# Altium integrated library Adafruit PyGamer.Library.IntLib: 259 symbols (part 1 of 3)
Pins are listed as number, name and electrical type; pins without a type are passive.

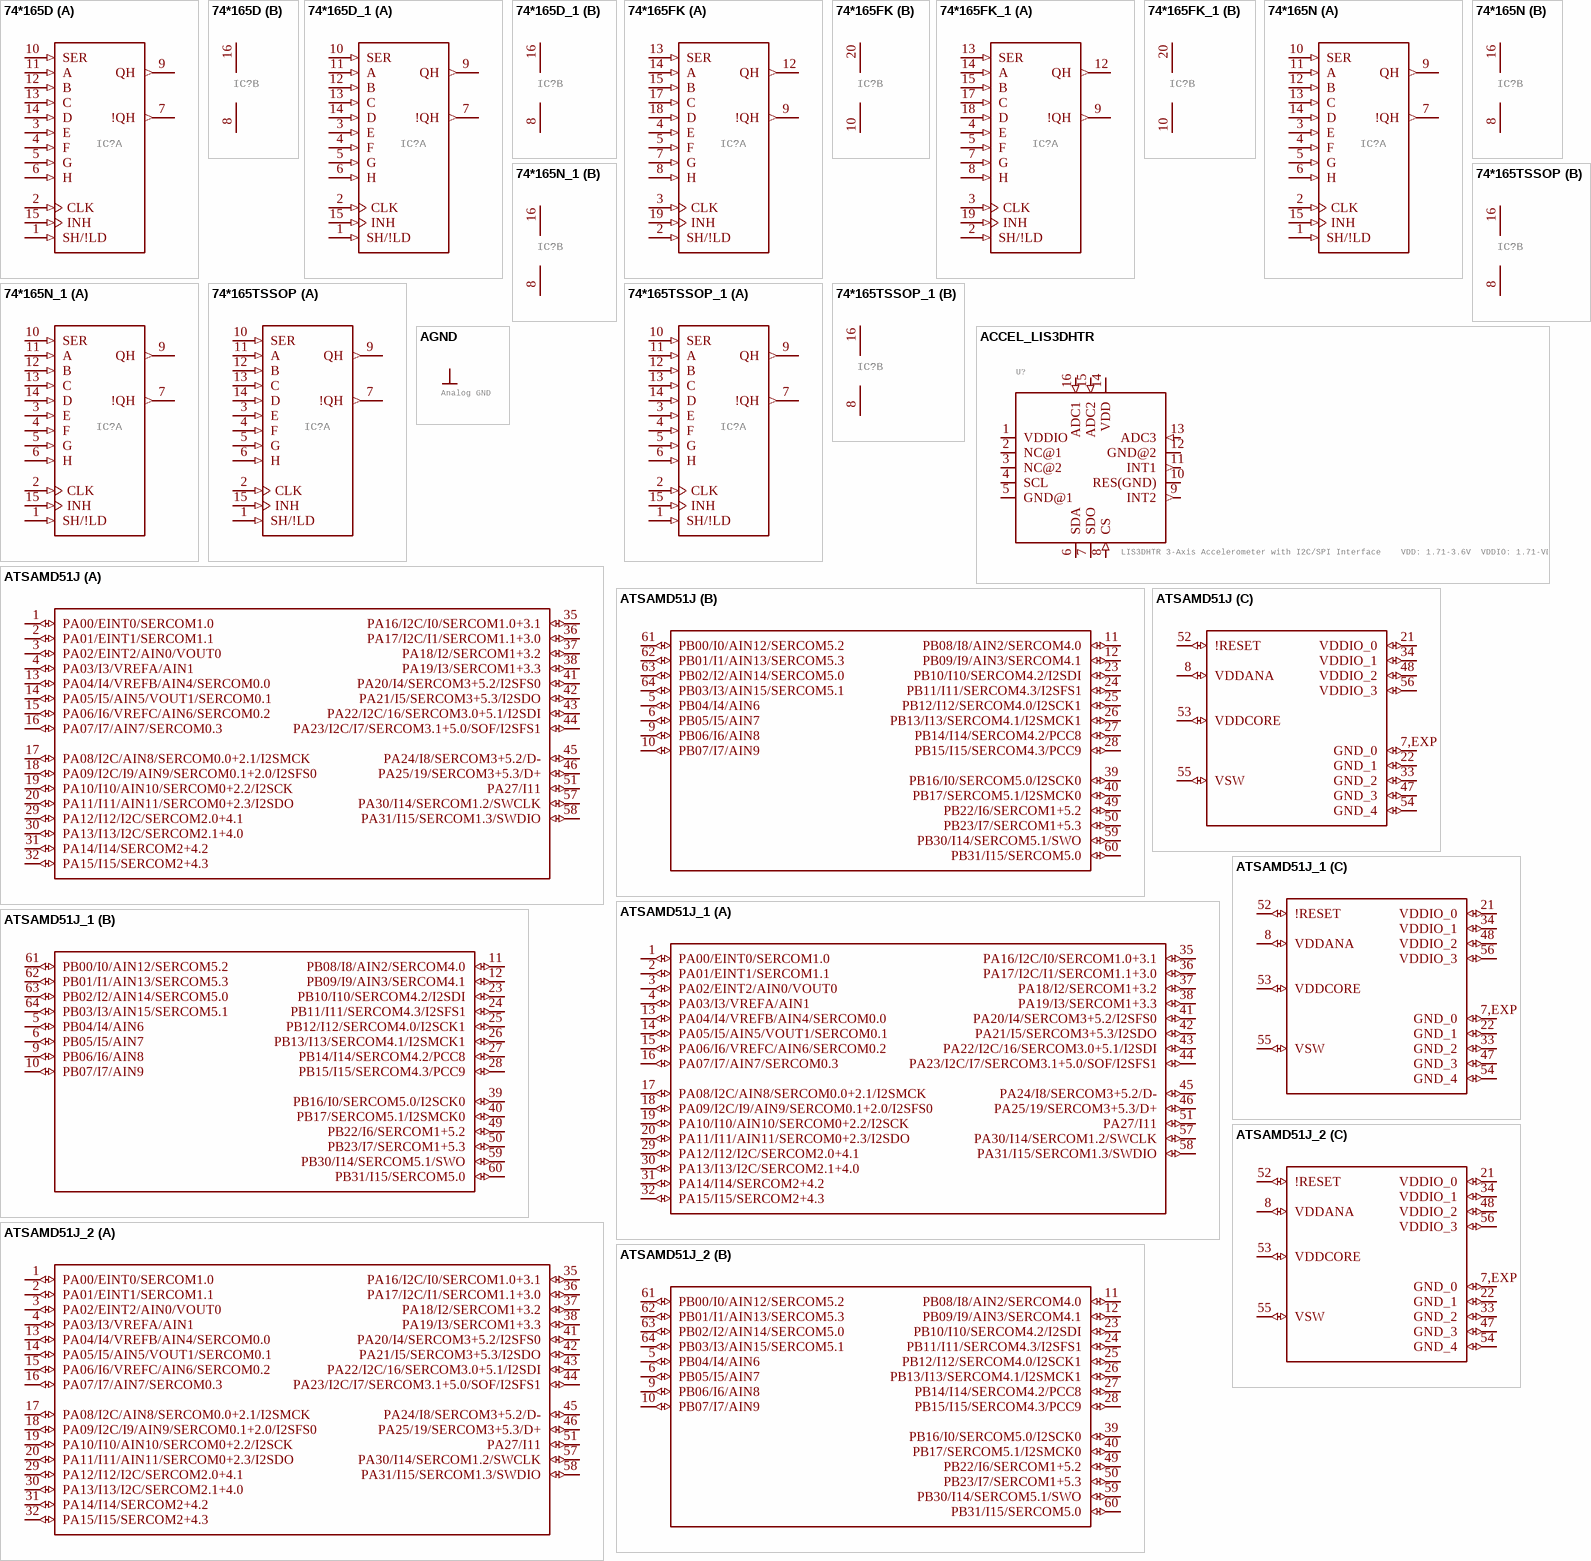
[diagram p0: symbols 74*165D to ATSAMD51J_2]

## 74*165D
designator IC?, comment 8-bit parallel load SHIFT REGISTER  (value not drawn)
GateName_1: A; SymbolName_1: 74165; GateName_2: P; SymbolName_2: PWRN; DeviceName: D; DeviceSetName: 74*165; LibraryName: Adafruit PyGamer; Package: SO16
footprint SO16
part A pins: 1 SH/!LD (in), 2 CLK (in), 3 E (in), 4 F (in), 5 G (in), 6 H (in), 7 !QH (out), 9 QH (out), 10 SER (in), 11 A (in), 12 B (in), 13 C (in), 14 D (in), 15 INH (in)
part B pins: 8 GND (power), 16 VCC (power)

## 74*165D_1
designator IC?, comment 8-bit parallel load SHIFT REGISTER  (value not drawn)
GateName_1: A; SymbolName_1: 74165; GateName_2: P; SymbolName_2: PWRN; DeviceName: D; DeviceSetName: 74*165; LibraryName: Adafruit PyGamer; Package: SO16
footprint SO16
part A pins: 1 SH/!LD (in), 2 CLK (in), 3 E (in), 4 F (in), 5 G (in), 6 H (in), 7 !QH (out), 9 QH (out), 10 SER (in), 11 A (in), 12 B (in), 13 C (in), 14 D (in), 15 INH (in)
part B pins: 8 GND (power), 16 VCC (power)

## 74*165FK
designator IC?, comment 8-bit parallel load SHIFT REGISTER  (value not drawn)
GateName_1: A; SymbolName_1: 74165; GateName_2: P; SymbolName_2: PWRN; DeviceName: FK; DeviceSetName: 74*165; LibraryName: Adafruit PyGamer; Package: LCC20
footprint LCC20
part A pins: 2 SH/!LD (in), 3 CLK (in), 4 E (in), 5 F (in), 7 G (in), 8 H (in), 9 !QH (out), 12 QH (out), 13 SER (in), 14 A (in), 15 B (in), 17 C (in), 18 D (in), 19 INH (in)
part B pins: 10 GND (power), 20 VCC (power)

## 74*165FK_1
designator IC?, comment 8-bit parallel load SHIFT REGISTER  (value not drawn)
GateName_1: A; SymbolName_1: 74165; GateName_2: P; SymbolName_2: PWRN; DeviceName: FK; DeviceSetName: 74*165; LibraryName: Adafruit PyGamer; Package: LCC20
footprint LCC20
part A pins: 2 SH/!LD (in), 3 CLK (in), 4 E (in), 5 F (in), 7 G (in), 8 H (in), 9 !QH (out), 12 QH (out), 13 SER (in), 14 A (in), 15 B (in), 17 C (in), 18 D (in), 19 INH (in)
part B pins: 10 GND (power), 20 VCC (power)

## 74*165N
designator IC?, comment 8-bit parallel load SHIFT REGISTER  (value not drawn)
GateName_1: A; SymbolName_1: 74165; GateName_2: P; SymbolName_2: PWRN; DeviceName: N; DeviceSetName: 74*165; LibraryName: Adafruit PyGamer; Package: DIL16
footprint DIL16
part A pins: 1 SH/!LD (in), 2 CLK (in), 3 E (in), 4 F (in), 5 G (in), 6 H (in), 7 !QH (out), 9 QH (out), 10 SER (in), 11 A (in), 12 B (in), 13 C (in), 14 D (in), 15 INH (in)
part B pins: 8 GND (power), 16 VCC (power)

## 74*165N_1
designator IC?, comment 8-bit parallel load SHIFT REGISTER  (value not drawn)
GateName_1: A; SymbolName_1: 74165; GateName_2: P; SymbolName_2: PWRN; DeviceName: N; DeviceSetName: 74*165; LibraryName: Adafruit PyGamer; Package: DIL16
footprint DIL16
part A pins: 1 SH/!LD (in), 2 CLK (in), 3 E (in), 4 F (in), 5 G (in), 6 H (in), 7 !QH (out), 9 QH (out), 10 SER (in), 11 A (in), 12 B (in), 13 C (in), 14 D (in), 15 INH (in)
part B pins: 8 GND (power), 16 VCC (power)

## 74*165TSSOP
designator IC?, comment 8-bit parallel load SHIFT REGISTER  (value not drawn)
GateName_1: A; SymbolName_1: 74165; GateName_2: P; SymbolName_2: PWRN; DeviceName: TSSOP; DeviceSetName: 74*165; LibraryName: Adafruit PyGamer; Package: TSSOP16
footprint TSSOP16
part A pins: 1 SH/!LD (in), 2 CLK (in), 3 E (in), 4 F (in), 5 G (in), 6 H (in), 7 !QH (out), 9 QH (out), 10 SER (in), 11 A (in), 12 B (in), 13 C (in), 14 D (in), 15 INH (in)
part B pins: 8 GND (power), 16 VCC (power)

## 74*165TSSOP_1
designator IC?, comment 8-bit parallel load SHIFT REGISTER  (value not drawn)
GateName_1: A; SymbolName_1: 74165; GateName_2: P; SymbolName_2: PWRN; DeviceName: TSSOP; DeviceSetName: 74*165; LibraryName: Adafruit PyGamer; Package: TSSOP16
footprint TSSOP16
part A pins: 1 SH/!LD (in), 2 CLK (in), 3 E (in), 4 F (in), 5 G (in), 6 H (in), 7 !QH (out), 9 QH (out), 10 SER (in), 11 A (in), 12 B (in), 13 C (in), 14 D (in), 15 INH (in)
part B pins: 8 GND (power), 16 VCC (power)

## ACCEL_LIS3DHTR
designator U?, comment LIS3DHTR 3-Axis Accelerometer with I2C/SPI Interface    VDD: 1.71-3.6V  VDDIO: 1.71-VDD+0.1V  Scale: +/-2g, 4g, 8g, 16g with 16--bit data output  Temp:: -40Â°C - 85Â°C       Mouser: 511-LIS3DHTR Digikey: 497-10613-1-ND
GateName_1: G$1; DeviceSetName: ACCEL_LIS3DHTR; SymbolName_1: LIS3DHTR; LibraryName: Adafruit PyGamer; Package: LGA16_3X3MM
footprint LGA16_3X3MM
pins: 1 VDDIO (power), 2 NC@1, 3 NC@2, 4 SCL (io), 5 GND@1 (power), 6 SDA (io), 7 SDO (io), 8 CS (in), 9 INT2 (out), 10 RES(GND) (io), 11 INT1 (out), 12 GND@2 (power), 13 ADC3 (in), 14 VDD (power), 15 ADC2 (in), 16 ADC1 (in)

## AGND
designator ?, comment Analog GND
GateName_1: G$1; SymbolName_1: AGND; LibraryName: Adafruit PyGamer; DeviceSetName: AGND
pins: ?1 AGND (power)

## ATSAMD51J
designator ?, comment ATSAMD51J cortex m4 microcontroller  (value not drawn)
GateName_1: G$1; SymbolName_1: ATSAMD51J_PORTA; GateName_2: G$2; SymbolName_2: ATSAMD51J_PORTB; GateName_3: G$3; SymbolName_3: ATSAMD51J_PWR; LibraryName: Adafruit PyGamer; DeviceSetName: ATSAMD51J; Package: PQFN64-1
footprint PQFN64-1
part A pins: 1 PA00/EINT0/SERCOM1.0 (io), 2 PA01/EINT1/SERCOM1.1 (io), 3 PA02/EINT2/AIN0/VOUT0 (io), 4 PA03/I3/VREFA/AIN1 (io), 13 PA04/I4/VREFB/AIN4/SERCOM0.0 (io), 14 PA05/I5/AIN5/VOUT1/SERCOM0.1 (io), 15 PA06/I6/VREFC/AIN6/SERCOM0.2 (io), 16 PA07/I7/AIN7/SERCOM0.3 (io), 17 PA08/I2C/AIN8/SERCOM0.0+2.1/I2SMCK (io), 18 PA09/I2C/I9/AIN9/SERCOM0.1+2.0/I2SFS0 (io), 19 PA10/I10/AIN10/SERCOM0+2.2/I2SCK (io), 20 PA11/I11/AIN11/SERCOM0+2.3/I2SDO (io), 29 PA12/I12/I2C/SERCOM2.0+4.1 (io), 30 PA13/I13/I2C/SERCOM2.1+4.0 (io), 31 PA14/I14/SERCOM2+4.2 (io), 32 PA15/I15/SERCOM2+4.3 (io), 35 PA16/I2C/I0/SERCOM1.0+3.1 (io), 36 PA17/I2C/I1/SERCOM1.1+3.0 (io), 37 PA18/I2/SERCOM1+3.2 (io), 38 PA19/I3/SERCOM1+3.3 (io), 41 PA20/I4/SERCOM3+5.2/I2SFS0 (io), 42 PA21/I5/SERCOM3+5.3/I2SDO (io), 43 PA22/I2C/16/SERCOM3.0+5.1/I2SDI (io), 44 PA23/I2C/I7/SERCOM3.1+5.0/SOF/I2SFS1 (io), 45 PA24/I8/SERCOM3+5.2/D- (io), 46 PA25/19/SERCOM3+5.3/D+ (io), 51 PA27/I11 (io), 57 PA30/I14/SERCOM1.2/SWCLK (io), 58 PA31/I15/SERCOM1.3/SWDIO (io)
part B pins: 5 PB04/I4/AIN6 (io), 6 PB05/I5/AIN7 (io), 9 PB06/I6/AIN8 (io), 10 PB07/I7/AIN9 (io), 11 PB08/I8/AIN2/SERCOM4.0 (io), 12 PB09/I9/AIN3/SERCOM4.1 (io), 23 PB10/I10/SERCOM4.2/I2SDI (io), 24 PB11/I11/SERCOM4.3/I2SFS1 (io), 25 PB12/I12/SERCOM4.0/I2SCK1 (io), 26 PB13/I13/SERCOM4.1/I2SMCK1 (io), 27 PB14/I14/SERCOM4.2/PCC8 (io), 28 PB15/I15/SERCOM4.3/PCC9 (io), 39 PB16/I0/SERCOM5.0/I2SCK0 (io), 40 PB17/SERCOM5.1/I2SMCK0 (io), 49 PB22/I6/SERCOM1+5.2 (io), 50 PB23/I7/SERCOM1+5.3 (io), 59 PB30/I14/SERCOM5.1/SWO (io), 60 PB31/I15/SERCOM5.0 (io), 61 PB00/I0/AIN12/SERCOM5.2 (io), 62 PB01/I1/AIN13/SERCOM5.3 (io), 63 PB02/I2/AIN14/SERCOM5.0 (io), 64 PB03/I3/AIN15/SERCOM5.1 (io)
part C pins: 7,EXP GND_0 (io), 8 VDDANA (io), 21 VDDIO_0 (io), 22 GND_1 (io), 33 GND_2 (io), 34 VDDIO_1 (io), 47 GND_3 (io), 48 VDDIO_2 (io), 52 !RESET (io), 53 VDDCORE (io), 54 GND_4 (io), 55 VSW (io), 56 VDDIO_3 (io)

## ATSAMD51J_1
designator ?, comment ATSAMD51J cortex m4 microcontroller  (value not drawn)
GateName_1: G$1; SymbolName_1: ATSAMD51J_PORTA; GateName_2: G$2; SymbolName_2: ATSAMD51J_PORTB; GateName_3: G$3; SymbolName_3: ATSAMD51J_PWR; LibraryName: Adafruit PyGamer; DeviceSetName: ATSAMD51J; Package: PQFN64-1
footprint PQFN64-1
part A pins: 1 PA00/EINT0/SERCOM1.0 (io), 2 PA01/EINT1/SERCOM1.1 (io), 3 PA02/EINT2/AIN0/VOUT0 (io), 4 PA03/I3/VREFA/AIN1 (io), 13 PA04/I4/VREFB/AIN4/SERCOM0.0 (io), 14 PA05/I5/AIN5/VOUT1/SERCOM0.1 (io), 15 PA06/I6/VREFC/AIN6/SERCOM0.2 (io), 16 PA07/I7/AIN7/SERCOM0.3 (io), 17 PA08/I2C/AIN8/SERCOM0.0+2.1/I2SMCK (io), 18 PA09/I2C/I9/AIN9/SERCOM0.1+2.0/I2SFS0 (io), 19 PA10/I10/AIN10/SERCOM0+2.2/I2SCK (io), 20 PA11/I11/AIN11/SERCOM0+2.3/I2SDO (io), 29 PA12/I12/I2C/SERCOM2.0+4.1 (io), 30 PA13/I13/I2C/SERCOM2.1+4.0 (io), 31 PA14/I14/SERCOM2+4.2 (io), 32 PA15/I15/SERCOM2+4.3 (io), 35 PA16/I2C/I0/SERCOM1.0+3.1 (io), 36 PA17/I2C/I1/SERCOM1.1+3.0 (io), 37 PA18/I2/SERCOM1+3.2 (io), 38 PA19/I3/SERCOM1+3.3 (io), 41 PA20/I4/SERCOM3+5.2/I2SFS0 (io), 42 PA21/I5/SERCOM3+5.3/I2SDO (io), 43 PA22/I2C/16/SERCOM3.0+5.1/I2SDI (io), 44 PA23/I2C/I7/SERCOM3.1+5.0/SOF/I2SFS1 (io), 45 PA24/I8/SERCOM3+5.2/D- (io), 46 PA25/19/SERCOM3+5.3/D+ (io), 51 PA27/I11 (io), 57 PA30/I14/SERCOM1.2/SWCLK (io), 58 PA31/I15/SERCOM1.3/SWDIO (io)
part B pins: 5 PB04/I4/AIN6 (io), 6 PB05/I5/AIN7 (io), 9 PB06/I6/AIN8 (io), 10 PB07/I7/AIN9 (io), 11 PB08/I8/AIN2/SERCOM4.0 (io), 12 PB09/I9/AIN3/SERCOM4.1 (io), 23 PB10/I10/SERCOM4.2/I2SDI (io), 24 PB11/I11/SERCOM4.3/I2SFS1 (io), 25 PB12/I12/SERCOM4.0/I2SCK1 (io), 26 PB13/I13/SERCOM4.1/I2SMCK1 (io), 27 PB14/I14/SERCOM4.2/PCC8 (io), 28 PB15/I15/SERCOM4.3/PCC9 (io), 39 PB16/I0/SERCOM5.0/I2SCK0 (io), 40 PB17/SERCOM5.1/I2SMCK0 (io), 49 PB22/I6/SERCOM1+5.2 (io), 50 PB23/I7/SERCOM1+5.3 (io), 59 PB30/I14/SERCOM5.1/SWO (io), 60 PB31/I15/SERCOM5.0 (io), 61 PB00/I0/AIN12/SERCOM5.2 (io), 62 PB01/I1/AIN13/SERCOM5.3 (io), 63 PB02/I2/AIN14/SERCOM5.0 (io), 64 PB03/I3/AIN15/SERCOM5.1 (io)
part C pins: 7,EXP GND_0 (io), 8 VDDANA (io), 21 VDDIO_0 (io), 22 GND_1 (io), 33 GND_2 (io), 34 VDDIO_1 (io), 47 GND_3 (io), 48 VDDIO_2 (io), 52 !RESET (io), 53 VDDCORE (io), 54 GND_4 (io), 55 VSW (io), 56 VDDIO_3 (io)

## ATSAMD51J_2
designator ?, comment ATSAMD51J cortex m4 microcontroller  (value not drawn)
GateName_1: G$1; SymbolName_1: ATSAMD51J_PORTA; GateName_2: G$2; SymbolName_2: ATSAMD51J_PORTB; GateName_3: G$3; SymbolName_3: ATSAMD51J_PWR; LibraryName: Adafruit PyGamer; DeviceSetName: ATSAMD51J; Package: PQFN64-1
footprint PQFN64-1
part A pins: 1 PA00/EINT0/SERCOM1.0 (io), 2 PA01/EINT1/SERCOM1.1 (io), 3 PA02/EINT2/AIN0/VOUT0 (io), 4 PA03/I3/VREFA/AIN1 (io), 13 PA04/I4/VREFB/AIN4/SERCOM0.0 (io), 14 PA05/I5/AIN5/VOUT1/SERCOM0.1 (io), 15 PA06/I6/VREFC/AIN6/SERCOM0.2 (io), 16 PA07/I7/AIN7/SERCOM0.3 (io), 17 PA08/I2C/AIN8/SERCOM0.0+2.1/I2SMCK (io), 18 PA09/I2C/I9/AIN9/SERCOM0.1+2.0/I2SFS0 (io), 19 PA10/I10/AIN10/SERCOM0+2.2/I2SCK (io), 20 PA11/I11/AIN11/SERCOM0+2.3/I2SDO (io), 29 PA12/I12/I2C/SERCOM2.0+4.1 (io), 30 PA13/I13/I2C/SERCOM2.1+4.0 (io), 31 PA14/I14/SERCOM2+4.2 (io), 32 PA15/I15/SERCOM2+4.3 (io), 35 PA16/I2C/I0/SERCOM1.0+3.1 (io), 36 PA17/I2C/I1/SERCOM1.1+3.0 (io), 37 PA18/I2/SERCOM1+3.2 (io), 38 PA19/I3/SERCOM1+3.3 (io), 41 PA20/I4/SERCOM3+5.2/I2SFS0 (io), 42 PA21/I5/SERCOM3+5.3/I2SDO (io), 43 PA22/I2C/16/SERCOM3.0+5.1/I2SDI (io), 44 PA23/I2C/I7/SERCOM3.1+5.0/SOF/I2SFS1 (io), 45 PA24/I8/SERCOM3+5.2/D- (io), 46 PA25/19/SERCOM3+5.3/D+ (io), 51 PA27/I11 (io), 57 PA30/I14/SERCOM1.2/SWCLK (io), 58 PA31/I15/SERCOM1.3/SWDIO (io)
part B pins: 5 PB04/I4/AIN6 (io), 6 PB05/I5/AIN7 (io), 9 PB06/I6/AIN8 (io), 10 PB07/I7/AIN9 (io), 11 PB08/I8/AIN2/SERCOM4.0 (io), 12 PB09/I9/AIN3/SERCOM4.1 (io), 23 PB10/I10/SERCOM4.2/I2SDI (io), 24 PB11/I11/SERCOM4.3/I2SFS1 (io), 25 PB12/I12/SERCOM4.0/I2SCK1 (io), 26 PB13/I13/SERCOM4.1/I2SMCK1 (io), 27 PB14/I14/SERCOM4.2/PCC8 (io), 28 PB15/I15/SERCOM4.3/PCC9 (io), 39 PB16/I0/SERCOM5.0/I2SCK0 (io), 40 PB17/SERCOM5.1/I2SMCK0 (io), 49 PB22/I6/SERCOM1+5.2 (io), 50 PB23/I7/SERCOM1+5.3 (io), 59 PB30/I14/SERCOM5.1/SWO (io), 60 PB31/I15/SERCOM5.0 (io), 61 PB00/I0/AIN12/SERCOM5.2 (io), 62 PB01/I1/AIN13/SERCOM5.3 (io), 63 PB02/I2/AIN14/SERCOM5.0 (io), 64 PB03/I3/AIN15/SERCOM5.1 (io)
part C pins: 7,EXP GND_0 (io), 8 VDDANA (io), 21 VDDIO_0 (io), 22 GND_1 (io), 33 GND_2 (io), 34 VDDIO_1 (io), 47 GND_3 (io), 48 VDDIO_2 (io), 52 !RESET (io), 53 VDDCORE (io), 54 GND_4 (io), 55 VSW (io), 56 VDDIO_3 (io)

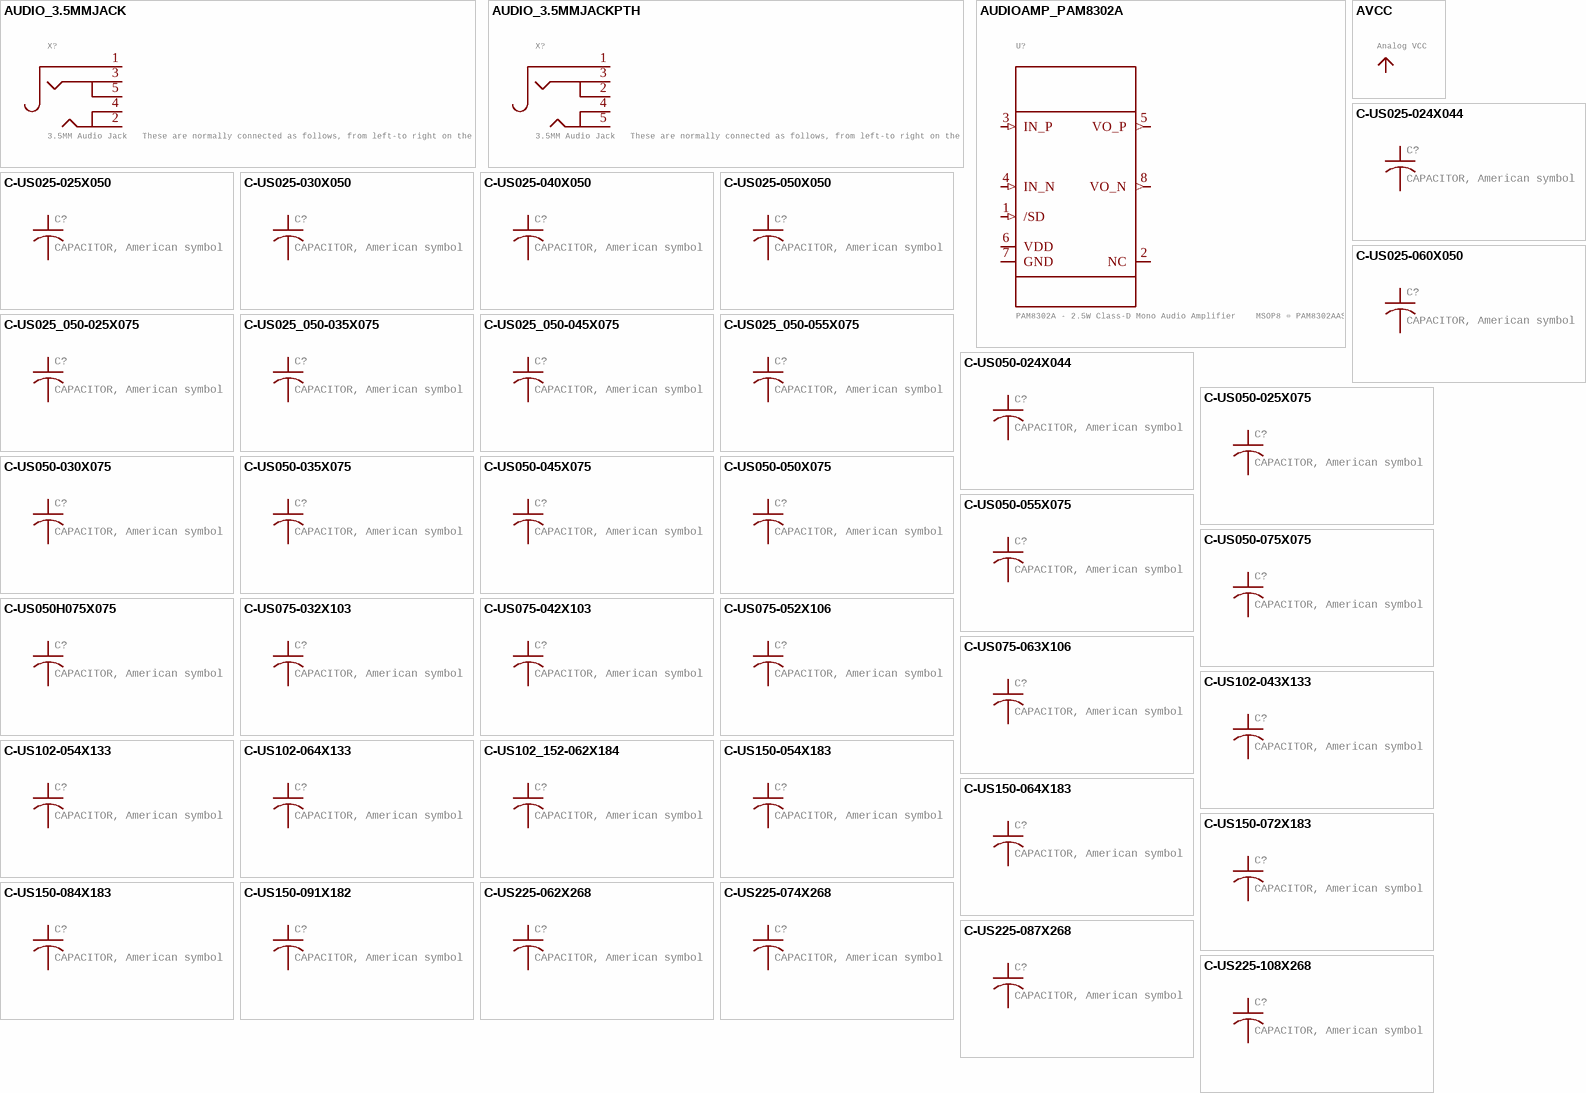
[diagram p1: symbols AUDIO_3.5MMJACK to C-US225-108X268]

## AUDIO_3.5MMJACK
designator X?, comment 3.5MM Audio Jack   These are normally connected as follows, from left-to right on the schematic symbol above: Tip: Left Audio  Inner Ring: Right Audio  Shell: Common/GND
GateName_1: G$1; SymbolName_1: 3.5MMAUDIO_5PIN; DeviceSetName: AUDIO_3.5MMJACK; LibraryName: Adafruit PyGamer; Package: 4UCONN_19269
footprint 4UCONN_19269
pins: 1 P$1 (io), 2 P$5 (io), 3 P$2 (io), 4 P$4 (io), 5 P$3 (io)

## AUDIO_3.5MMJACKPTH
designator X?, comment 3.5MM Audio Jack   These are normally connected as follows, from left-to right on the schematic symbol above: Tip: Left Audio  Inner Ring: Right Audio  Shell: Common/GND
GateName_1: G$1; SymbolName_1: 3.5MMAUDIO_5PIN; DeviceName: PTH; DeviceSetName: AUDIO_3.5MMJACK; LibraryName: Adafruit PyGamer; Package: 4UCONN_05550
footprint 4UCONN_05550
pins: 1 P$1 (io), 2 P$3 (io), 3 P$2 (io), 4 P$4 (io), 5 P$5 (io)

## AUDIOAMP_PAM8302A
designator U?, comment PAM8302A - 2.5W Class-D Mono Audio Amplifier    MSOP8 = PAM8302AASCR
GateName_1: G$1; DeviceSetName: AUDIOAMP_PAM8302A; SymbolName_1: PAM8302A; LibraryName: Adafruit PyGamer; Package: MSOP8_0.65MM
footprint MSOP8_0.65MM
pins: 1 /SD (in), 2 NC, 3 IN_P (in), 4 IN_N (in), 5 VO_P (out), 6 VDD (power), 7 GND (power), 8 VO_N (out)

## AVCC
designator ?, comment Analog VCC
GateName_1: G$1; SymbolName_1: AVCC; LibraryName: Adafruit PyGamer; DeviceSetName: AVCC
pins: ?1 AVCC (power)

## C-US025-024X044
designator C?, comment CAPACITOR, American symbol
GateName_1: G$1; SymbolName_1: C-US-1; DeviceName: 025-024X044; DeviceSetName: C-US; LibraryName: Adafruit PyGamer; Package: C025-024X044
footprint C025-024X044
pins: 1, 2

## C-US025-025X050
designator C?, comment CAPACITOR, American symbol
GateName_1: G$1; SymbolName_1: C-US-1; DeviceName: 025-025X050; DeviceSetName: C-US; LibraryName: Adafruit PyGamer; Package: C025-025X050
footprint C025-025X050
pins: 1, 2

## C-US025-030X050
designator C?, comment CAPACITOR, American symbol
GateName_1: G$1; SymbolName_1: C-US-1; DeviceName: 025-030X050; DeviceSetName: C-US; LibraryName: Adafruit PyGamer; Package: C025-030X050
footprint C025-030X050
pins: 1, 2

## C-US025-040X050
designator C?, comment CAPACITOR, American symbol
GateName_1: G$1; SymbolName_1: C-US-1; DeviceName: 025-040X050; DeviceSetName: C-US; LibraryName: Adafruit PyGamer; Package: C025-040X050
footprint C025-040X050
pins: 1, 2

## C-US025-050X050
designator C?, comment CAPACITOR, American symbol
GateName_1: G$1; SymbolName_1: C-US-1; DeviceName: 025-050X050; DeviceSetName: C-US; LibraryName: Adafruit PyGamer; Package: C025-050X050
footprint C025-050X050
pins: 1, 2

## C-US025-060X050
designator C?, comment CAPACITOR, American symbol
GateName_1: G$1; SymbolName_1: C-US-1; DeviceName: 025-060X050; DeviceSetName: C-US; LibraryName: Adafruit PyGamer; Package: C025-060X050
footprint C025-060X050
pins: 1, 2

## C-US025_050-025X075
designator C?, comment CAPACITOR, American symbol
GateName_1: G$1; SymbolName_1: C-US-1; DeviceName: 025_050-025X075; DeviceSetName: C-US; LibraryName: Adafruit PyGamer; Package: C025_050-025X075
footprint C025_050-025X075
pins: 1, 2

## C-US025_050-035X075
designator C?, comment CAPACITOR, American symbol
GateName_1: G$1; SymbolName_1: C-US-1; DeviceName: 025_050-035X075; DeviceSetName: C-US; LibraryName: Adafruit PyGamer; Package: C025_050-035X075
footprint C025_050-035X075
pins: 1, 2

## C-US025_050-045X075
designator C?, comment CAPACITOR, American symbol
GateName_1: G$1; SymbolName_1: C-US-1; DeviceName: 025_050-045X075; DeviceSetName: C-US; LibraryName: Adafruit PyGamer; Package: C025_050-045X075
footprint C025_050-045X075
pins: 1, 2

## C-US025_050-055X075
designator C?, comment CAPACITOR, American symbol
GateName_1: G$1; SymbolName_1: C-US-1; DeviceName: 025_050-055X075; DeviceSetName: C-US; LibraryName: Adafruit PyGamer; Package: C025_050-055X075
footprint C025_050-055X075
pins: 1, 2

## C-US050-024X044
designator C?, comment CAPACITOR, American symbol
GateName_1: G$1; SymbolName_1: C-US-1; DeviceName: 050-024X044; DeviceSetName: C-US; LibraryName: Adafruit PyGamer; Package: C050-024X044
footprint C050-024X044
pins: 1, 2

## C-US050-025X075
designator C?, comment CAPACITOR, American symbol
GateName_1: G$1; SymbolName_1: C-US-1; DeviceName: 050-025X075; DeviceSetName: C-US; LibraryName: Adafruit PyGamer; Package: C050-025X075
footprint C050-025X075
pins: 1, 2

## C-US050-030X075
designator C?, comment CAPACITOR, American symbol
GateName_1: G$1; SymbolName_1: C-US-1; DeviceName: 050-030X075; DeviceSetName: C-US; LibraryName: Adafruit PyGamer; Package: C050-030X075
footprint C050-030X075
pins: 1, 2

## C-US050-035X075
designator C?, comment CAPACITOR, American symbol
GateName_1: G$1; SymbolName_1: C-US-1; DeviceName: 050-035X075; DeviceSetName: C-US; LibraryName: Adafruit PyGamer; Package: C050-035X075
footprint C050-035X075
pins: 1, 2

## C-US050-045X075
designator C?, comment CAPACITOR, American symbol
GateName_1: G$1; SymbolName_1: C-US-1; DeviceName: 050-045X075; DeviceSetName: C-US; LibraryName: Adafruit PyGamer; Package: C050-045X075
footprint C050-045X075
pins: 1, 2

## C-US050-050X075
designator C?, comment CAPACITOR, American symbol
GateName_1: G$1; SymbolName_1: C-US-1; DeviceName: 050-050X075; DeviceSetName: C-US; LibraryName: Adafruit PyGamer; Package: C050-050X075
footprint C050-050X075
pins: 1, 2

## C-US050-055X075
designator C?, comment CAPACITOR, American symbol
GateName_1: G$1; SymbolName_1: C-US-1; DeviceName: 050-055X075; DeviceSetName: C-US; LibraryName: Adafruit PyGamer; Package: C050-055X075
footprint C050-055X075
pins: 1, 2

## C-US050-075X075
designator C?, comment CAPACITOR, American symbol
GateName_1: G$1; SymbolName_1: C-US-1; DeviceName: 050-075X075; DeviceSetName: C-US; LibraryName: Adafruit PyGamer; Package: C050-075X075
footprint C050-075X075
pins: 1, 2

## C-US050H075X075
designator C?, comment CAPACITOR, American symbol
GateName_1: G$1; SymbolName_1: C-US-1; DeviceName: 050H075X075; DeviceSetName: C-US; LibraryName: Adafruit PyGamer; Package: C050H075X075
footprint C050H075X075
pins: 1, 2

## C-US075-032X103
designator C?, comment CAPACITOR, American symbol
GateName_1: G$1; SymbolName_1: C-US-1; DeviceName: 075-032X103; DeviceSetName: C-US; LibraryName: Adafruit PyGamer; Package: C075-032X103
footprint C075-032X103
pins: 1, 2

## C-US075-042X103
designator C?, comment CAPACITOR, American symbol
GateName_1: G$1; SymbolName_1: C-US-1; DeviceName: 075-042X103; DeviceSetName: C-US; LibraryName: Adafruit PyGamer; Package: C075-042X103
footprint C075-042X103
pins: 1, 2

## C-US075-052X106
designator C?, comment CAPACITOR, American symbol
GateName_1: G$1; SymbolName_1: C-US-1; DeviceName: 075-052X106; DeviceSetName: C-US; LibraryName: Adafruit PyGamer; Package: C075-052X106
footprint C075-052X106
pins: 1, 2

## C-US075-063X106
designator C?, comment CAPACITOR, American symbol
GateName_1: G$1; SymbolName_1: C-US-1; DeviceName: 075-063X106; DeviceSetName: C-US; LibraryName: Adafruit PyGamer; Package: C075-063X106
footprint C075-063X106
pins: 1, 2

## C-US102-043X133
designator C?, comment CAPACITOR, American symbol
GateName_1: G$1; SymbolName_1: C-US-1; DeviceName: 102-043X133; DeviceSetName: C-US; LibraryName: Adafruit PyGamer; Package: C102-043X133
footprint C102-043X133
pins: 1, 2

## C-US102-054X133
designator C?, comment CAPACITOR, American symbol
GateName_1: G$1; SymbolName_1: C-US-1; DeviceName: 102-054X133; DeviceSetName: C-US; LibraryName: Adafruit PyGamer; Package: C102-054X133
footprint C102-054X133
pins: 1, 2

## C-US102-064X133
designator C?, comment CAPACITOR, American symbol
GateName_1: G$1; SymbolName_1: C-US-1; DeviceName: 102-064X133; DeviceSetName: C-US; LibraryName: Adafruit PyGamer; Package: C102-064X133
footprint C102-064X133
pins: 1, 2

## C-US102_152-062X184
designator C?, comment CAPACITOR, American symbol
GateName_1: G$1; SymbolName_1: C-US-1; DeviceName: 102_152-062X184; DeviceSetName: C-US; LibraryName: Adafruit PyGamer; Package: C102_152-062X184
footprint C102_152-062X184
pins: 1, 2

## C-US150-054X183
designator C?, comment CAPACITOR, American symbol
GateName_1: G$1; SymbolName_1: C-US-1; DeviceName: 150-054X183; DeviceSetName: C-US; LibraryName: Adafruit PyGamer; Package: C150-054X183
footprint C150-054X183
pins: 1, 2

## C-US150-064X183
designator C?, comment CAPACITOR, American symbol
GateName_1: G$1; SymbolName_1: C-US-1; DeviceName: 150-064X183; DeviceSetName: C-US; LibraryName: Adafruit PyGamer; Package: C150-064X183
footprint C150-064X183
pins: 1, 2

## C-US150-072X183
designator C?, comment CAPACITOR, American symbol
GateName_1: G$1; SymbolName_1: C-US-1; DeviceName: 150-072X183; DeviceSetName: C-US; LibraryName: Adafruit PyGamer; Package: C150-072X183
footprint C150-072X183
pins: 1, 2

## C-US150-084X183
designator C?, comment CAPACITOR, American symbol
GateName_1: G$1; SymbolName_1: C-US-1; DeviceName: 150-084X183; DeviceSetName: C-US; LibraryName: Adafruit PyGamer; Package: C150-084X183
footprint C150-084X183
pins: 1, 2

## C-US150-091X182
designator C?, comment CAPACITOR, American symbol
GateName_1: G$1; SymbolName_1: C-US-1; DeviceName: 150-091X182; DeviceSetName: C-US; LibraryName: Adafruit PyGamer; Package: C150-091X182
footprint C150-091X182
pins: 1, 2

## C-US225-062X268
designator C?, comment CAPACITOR, American symbol
GateName_1: G$1; SymbolName_1: C-US-1; DeviceName: 225-062X268; DeviceSetName: C-US; LibraryName: Adafruit PyGamer; Package: C225-062X268
footprint C225-062X268
pins: 1, 2

## C-US225-074X268
designator C?, comment CAPACITOR, American symbol
GateName_1: G$1; SymbolName_1: C-US-1; DeviceName: 225-074X268; DeviceSetName: C-US; LibraryName: Adafruit PyGamer; Package: C225-074X268
footprint C225-074X268
pins: 1, 2

## C-US225-087X268
designator C?, comment CAPACITOR, American symbol
GateName_1: G$1; SymbolName_1: C-US-1; DeviceName: 225-087X268; DeviceSetName: C-US; LibraryName: Adafruit PyGamer; Package: C225-087X268
footprint C225-087X268
pins: 1, 2

## C-US225-108X268
designator C?, comment CAPACITOR, American symbol
GateName_1: G$1; SymbolName_1: C-US-1; DeviceName: 225-108X268; DeviceSetName: C-US; LibraryName: Adafruit PyGamer; Package: C225-108X268
footprint C225-108X268
pins: 1, 2

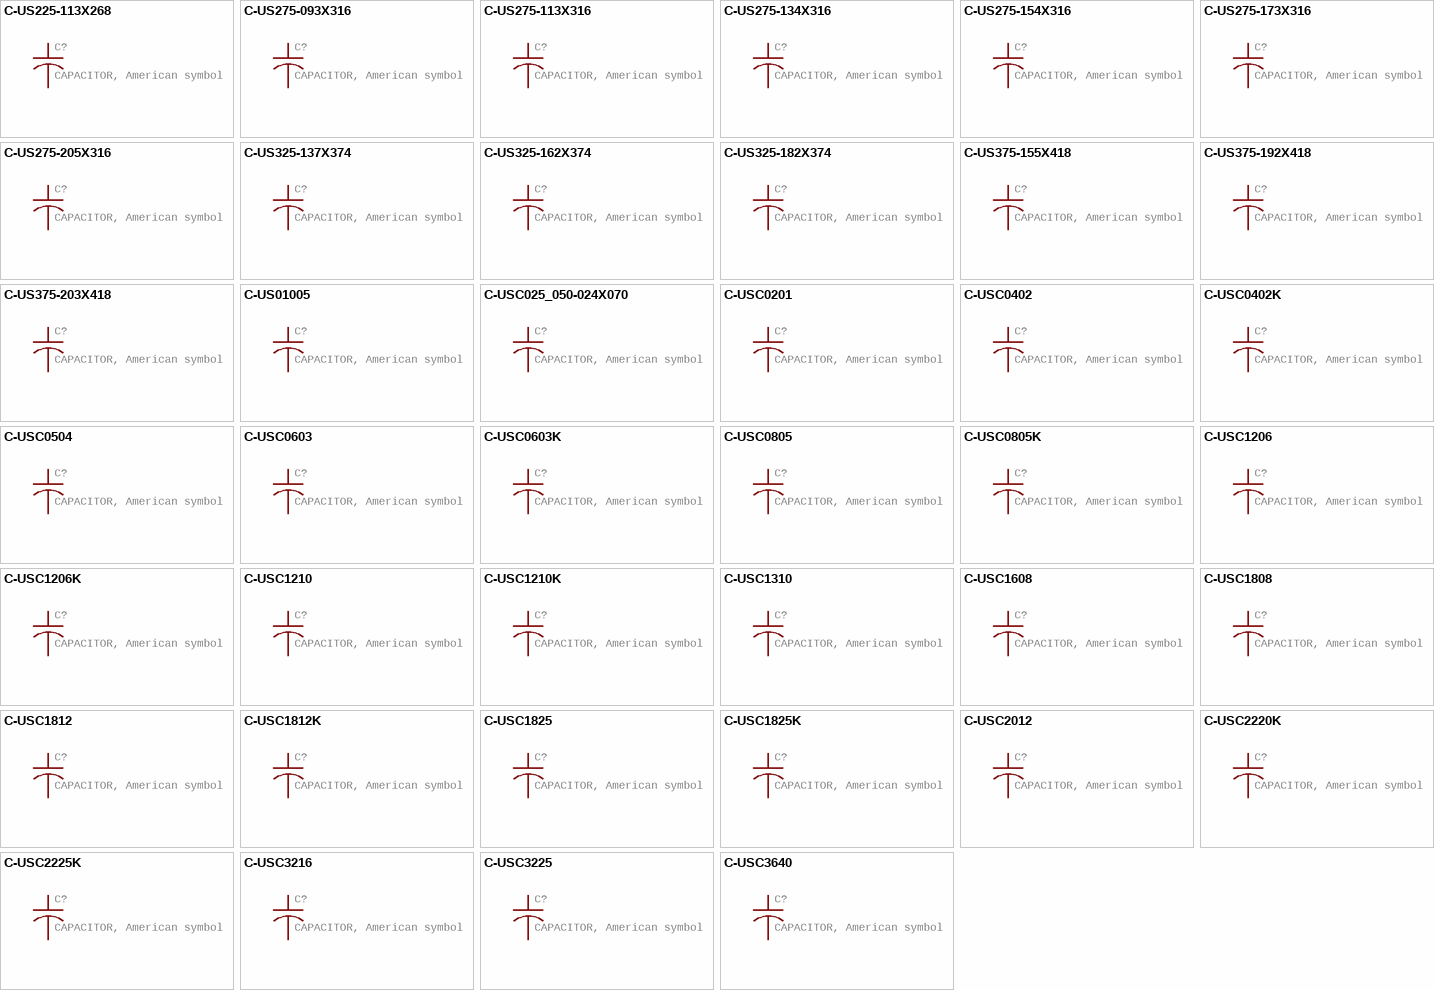
[diagram p2: symbols C-US225-113X268 to C-USC3640]

## C-US225-113X268
designator C?, comment CAPACITOR, American symbol
GateName_1: G$1; SymbolName_1: C-US-1; DeviceName: 225-113X268; DeviceSetName: C-US; LibraryName: Adafruit PyGamer; Package: C225-113X268
footprint C225-113X268
pins: 1, 2

## C-US275-093X316
designator C?, comment CAPACITOR, American symbol
GateName_1: G$1; SymbolName_1: C-US-1; DeviceName: 275-093X316; DeviceSetName: C-US; LibraryName: Adafruit PyGamer; Package: C275-093X316
footprint C275-093X316
pins: 1, 2

## C-US275-113X316
designator C?, comment CAPACITOR, American symbol
GateName_1: G$1; SymbolName_1: C-US-1; DeviceName: 275-113X316; DeviceSetName: C-US; LibraryName: Adafruit PyGamer; Package: C275-113X316
footprint C275-113X316
pins: 1, 2

## C-US275-134X316
designator C?, comment CAPACITOR, American symbol
GateName_1: G$1; SymbolName_1: C-US-1; DeviceName: 275-134X316; DeviceSetName: C-US; LibraryName: Adafruit PyGamer; Package: C275-134X316
footprint C275-134X316
pins: 1, 2

## C-US275-154X316
designator C?, comment CAPACITOR, American symbol
GateName_1: G$1; SymbolName_1: C-US-1; DeviceName: 275-154X316; DeviceSetName: C-US; LibraryName: Adafruit PyGamer; Package: C275-154X316
footprint C275-154X316
pins: 1, 2

## C-US275-173X316
designator C?, comment CAPACITOR, American symbol
GateName_1: G$1; SymbolName_1: C-US-1; DeviceName: 275-173X316; DeviceSetName: C-US; LibraryName: Adafruit PyGamer; Package: C275-173X316
footprint C275-173X316
pins: 1, 2

## C-US275-205X316
designator C?, comment CAPACITOR, American symbol
GateName_1: G$1; SymbolName_1: C-US-1; DeviceName: 275-205X316; DeviceSetName: C-US; LibraryName: Adafruit PyGamer; Package: C275-205X316
footprint C275-205X316
pins: 1, 2

## C-US325-137X374
designator C?, comment CAPACITOR, American symbol
GateName_1: G$1; SymbolName_1: C-US-1; DeviceName: 325-137X374; DeviceSetName: C-US; LibraryName: Adafruit PyGamer; Package: C325-137X374
footprint C325-137X374
pins: 1, 2

## C-US325-162X374
designator C?, comment CAPACITOR, American symbol
GateName_1: G$1; SymbolName_1: C-US-1; DeviceName: 325-162X374; DeviceSetName: C-US; LibraryName: Adafruit PyGamer; Package: C325-162X374
footprint C325-162X374
pins: 1, 2

## C-US325-182X374
designator C?, comment CAPACITOR, American symbol
GateName_1: G$1; SymbolName_1: C-US-1; DeviceName: 325-182X374; DeviceSetName: C-US; LibraryName: Adafruit PyGamer; Package: C325-182X374
footprint C325-182X374
pins: 1, 2

## C-US375-155X418
designator C?, comment CAPACITOR, American symbol
GateName_1: G$1; SymbolName_1: C-US-1; DeviceName: 375-155X418; DeviceSetName: C-US; LibraryName: Adafruit PyGamer; Package: C375-155X418
footprint C375-155X418
pins: 1, 2

## C-US375-192X418
designator C?, comment CAPACITOR, American symbol
GateName_1: G$1; SymbolName_1: C-US-1; DeviceName: 375-192X418; DeviceSetName: C-US; LibraryName: Adafruit PyGamer; Package: C375-192X418
footprint C375-192X418
pins: 1, 2

## C-US375-203X418
designator C?, comment CAPACITOR, American symbol
GateName_1: G$1; SymbolName_1: C-US-1; DeviceName: 375-203X418; DeviceSetName: C-US; LibraryName: Adafruit PyGamer; Package: C375-203X418
footprint C375-203X418
pins: 1, 2

## C-US01005
designator C?, comment CAPACITOR, American symbol
GateName_1: G$1; SymbolName_1: C-US-1; DeviceName: 01005; DeviceSetName: C-US; LibraryName: Adafruit PyGamer; Package: C01005
footprint C01005
pins: 1, 2

## C-USC025_050-024X070
designator C?, comment CAPACITOR, American symbol
GateName_1: G$1; SymbolName_1: C-US-1; DeviceName: C025_050-024X070; DeviceSetName: C-US; LibraryName: Adafruit PyGamer; Package: C025_050-024X070
footprint C025_050-024X070
pins: 1, 2

## C-USC0201
designator C?, comment CAPACITOR, American symbol
GateName_1: G$1; SymbolName_1: C-US-1; DeviceName: C0201; DeviceSetName: C-US; LibraryName: Adafruit PyGamer; Package: C0201
footprint C0201
pins: 1, 2

## C-USC0402
designator C?, comment CAPACITOR, American symbol
GateName_1: G$1; SymbolName_1: C-US-1; DeviceName: C0402; DeviceSetName: C-US; LibraryName: Adafruit PyGamer; Package: C0402
footprint C0402
pins: 1, 2

## C-USC0402K
designator C?, comment CAPACITOR, American symbol
GateName_1: G$1; SymbolName_1: C-US-1; DeviceName: C0402K; DeviceSetName: C-US; LibraryName: Adafruit PyGamer; Package: C0402K
footprint C0402K
pins: 1, 2

## C-USC0504
designator C?, comment CAPACITOR, American symbol
GateName_1: G$1; SymbolName_1: C-US-1; DeviceName: C0504; DeviceSetName: C-US; LibraryName: Adafruit PyGamer; Package: C0504
footprint C0504
pins: 1, 2

## C-USC0603
designator C?, comment CAPACITOR, American symbol
GateName_1: G$1; SymbolName_1: C-US-1; DeviceName: C0603; DeviceSetName: C-US; LibraryName: Adafruit PyGamer; Package: C0603
footprint C0603
pins: 1, 2

## C-USC0603K
designator C?, comment CAPACITOR, American symbol
GateName_1: G$1; SymbolName_1: C-US-1; DeviceName: C0603K; DeviceSetName: C-US; LibraryName: Adafruit PyGamer; Package: C0603K
footprint C0603K
pins: 1, 2

## C-USC0805
designator C?, comment CAPACITOR, American symbol
GateName_1: G$1; SymbolName_1: C-US-1; DeviceName: C0805; DeviceSetName: C-US; LibraryName: Adafruit PyGamer; Package: C0805
footprint C0805
pins: 1, 2

## C-USC0805K
designator C?, comment CAPACITOR, American symbol
GateName_1: G$1; SymbolName_1: C-US-1; DeviceName: C0805K; DeviceSetName: C-US; LibraryName: Adafruit PyGamer; Package: C0805K
footprint C0805K
pins: 1, 2

## C-USC1206
designator C?, comment CAPACITOR, American symbol
GateName_1: G$1; SymbolName_1: C-US-1; DeviceName: C1206; DeviceSetName: C-US; LibraryName: Adafruit PyGamer; Package: C1206
footprint C1206
pins: 1, 2

## C-USC1206K
designator C?, comment CAPACITOR, American symbol
GateName_1: G$1; SymbolName_1: C-US-1; DeviceName: C1206K; DeviceSetName: C-US; LibraryName: Adafruit PyGamer; Package: C1206K
footprint C1206K
pins: 1, 2

## C-USC1210
designator C?, comment CAPACITOR, American symbol
GateName_1: G$1; SymbolName_1: C-US-1; DeviceName: C1210; DeviceSetName: C-US; LibraryName: Adafruit PyGamer; Package: C1210
footprint C1210
pins: 1, 2

## C-USC1210K
designator C?, comment CAPACITOR, American symbol
GateName_1: G$1; SymbolName_1: C-US-1; DeviceName: C1210K; DeviceSetName: C-US; LibraryName: Adafruit PyGamer; Package: C1210K
footprint C1210K
pins: 1, 2

## C-USC1310
designator C?, comment CAPACITOR, American symbol
GateName_1: G$1; SymbolName_1: C-US-1; DeviceName: C1310; DeviceSetName: C-US; LibraryName: Adafruit PyGamer; Package: C1310
footprint C1310
pins: 1, 2

## C-USC1608
designator C?, comment CAPACITOR, American symbol
GateName_1: G$1; SymbolName_1: C-US-1; DeviceName: C1608; DeviceSetName: C-US; LibraryName: Adafruit PyGamer; Package: C1608
footprint C1608
pins: 1, 2

## C-USC1808
designator C?, comment CAPACITOR, American symbol
GateName_1: G$1; SymbolName_1: C-US-1; DeviceName: C1808; DeviceSetName: C-US; LibraryName: Adafruit PyGamer; Package: C1808
footprint C1808
pins: 1, 2

## C-USC1812
designator C?, comment CAPACITOR, American symbol
GateName_1: G$1; SymbolName_1: C-US-1; DeviceName: C1812; DeviceSetName: C-US; LibraryName: Adafruit PyGamer; Package: C1812
footprint C1812
pins: 1, 2

## C-USC1812K
designator C?, comment CAPACITOR, American symbol
GateName_1: G$1; SymbolName_1: C-US-1; DeviceName: C1812K; DeviceSetName: C-US; LibraryName: Adafruit PyGamer; Package: C1812K
footprint C1812K
pins: 1, 2

## C-USC1825
designator C?, comment CAPACITOR, American symbol
GateName_1: G$1; SymbolName_1: C-US-1; DeviceName: C1825; DeviceSetName: C-US; LibraryName: Adafruit PyGamer; Package: C1825
footprint C1825
pins: 1, 2

## C-USC1825K
designator C?, comment CAPACITOR, American symbol
GateName_1: G$1; SymbolName_1: C-US-1; DeviceName: C1825K; DeviceSetName: C-US; LibraryName: Adafruit PyGamer; Package: C1825K
footprint C1825K
pins: 1, 2

## C-USC2012
designator C?, comment CAPACITOR, American symbol
GateName_1: G$1; SymbolName_1: C-US-1; DeviceName: C2012; DeviceSetName: C-US; LibraryName: Adafruit PyGamer; Package: C2012
footprint C2012
pins: 1, 2

## C-USC2220K
designator C?, comment CAPACITOR, American symbol
GateName_1: G$1; SymbolName_1: C-US-1; DeviceName: C2220K; DeviceSetName: C-US; LibraryName: Adafruit PyGamer; Package: C2220K
footprint C2220K
pins: 1, 2

## C-USC2225K
designator C?, comment CAPACITOR, American symbol
GateName_1: G$1; SymbolName_1: C-US-1; DeviceName: C2225K; DeviceSetName: C-US; LibraryName: Adafruit PyGamer; Package: C2225K
footprint C2225K
pins: 1, 2

## C-USC3216
designator C?, comment CAPACITOR, American symbol
GateName_1: G$1; SymbolName_1: C-US-1; DeviceName: C3216; DeviceSetName: C-US; LibraryName: Adafruit PyGamer; Package: C3216
footprint C3216
pins: 1, 2

## C-USC3225
designator C?, comment CAPACITOR, American symbol
GateName_1: G$1; SymbolName_1: C-US-1; DeviceName: C3225; DeviceSetName: C-US; LibraryName: Adafruit PyGamer; Package: C3225
footprint C3225
pins: 1, 2

## C-USC3640
designator C?, comment CAPACITOR, American symbol
GateName_1: G$1; SymbolName_1: C-US-1; DeviceName: C3640; DeviceSetName: C-US; LibraryName: Adafruit PyGamer; Package: C3640
footprint C3640
pins: 1, 2

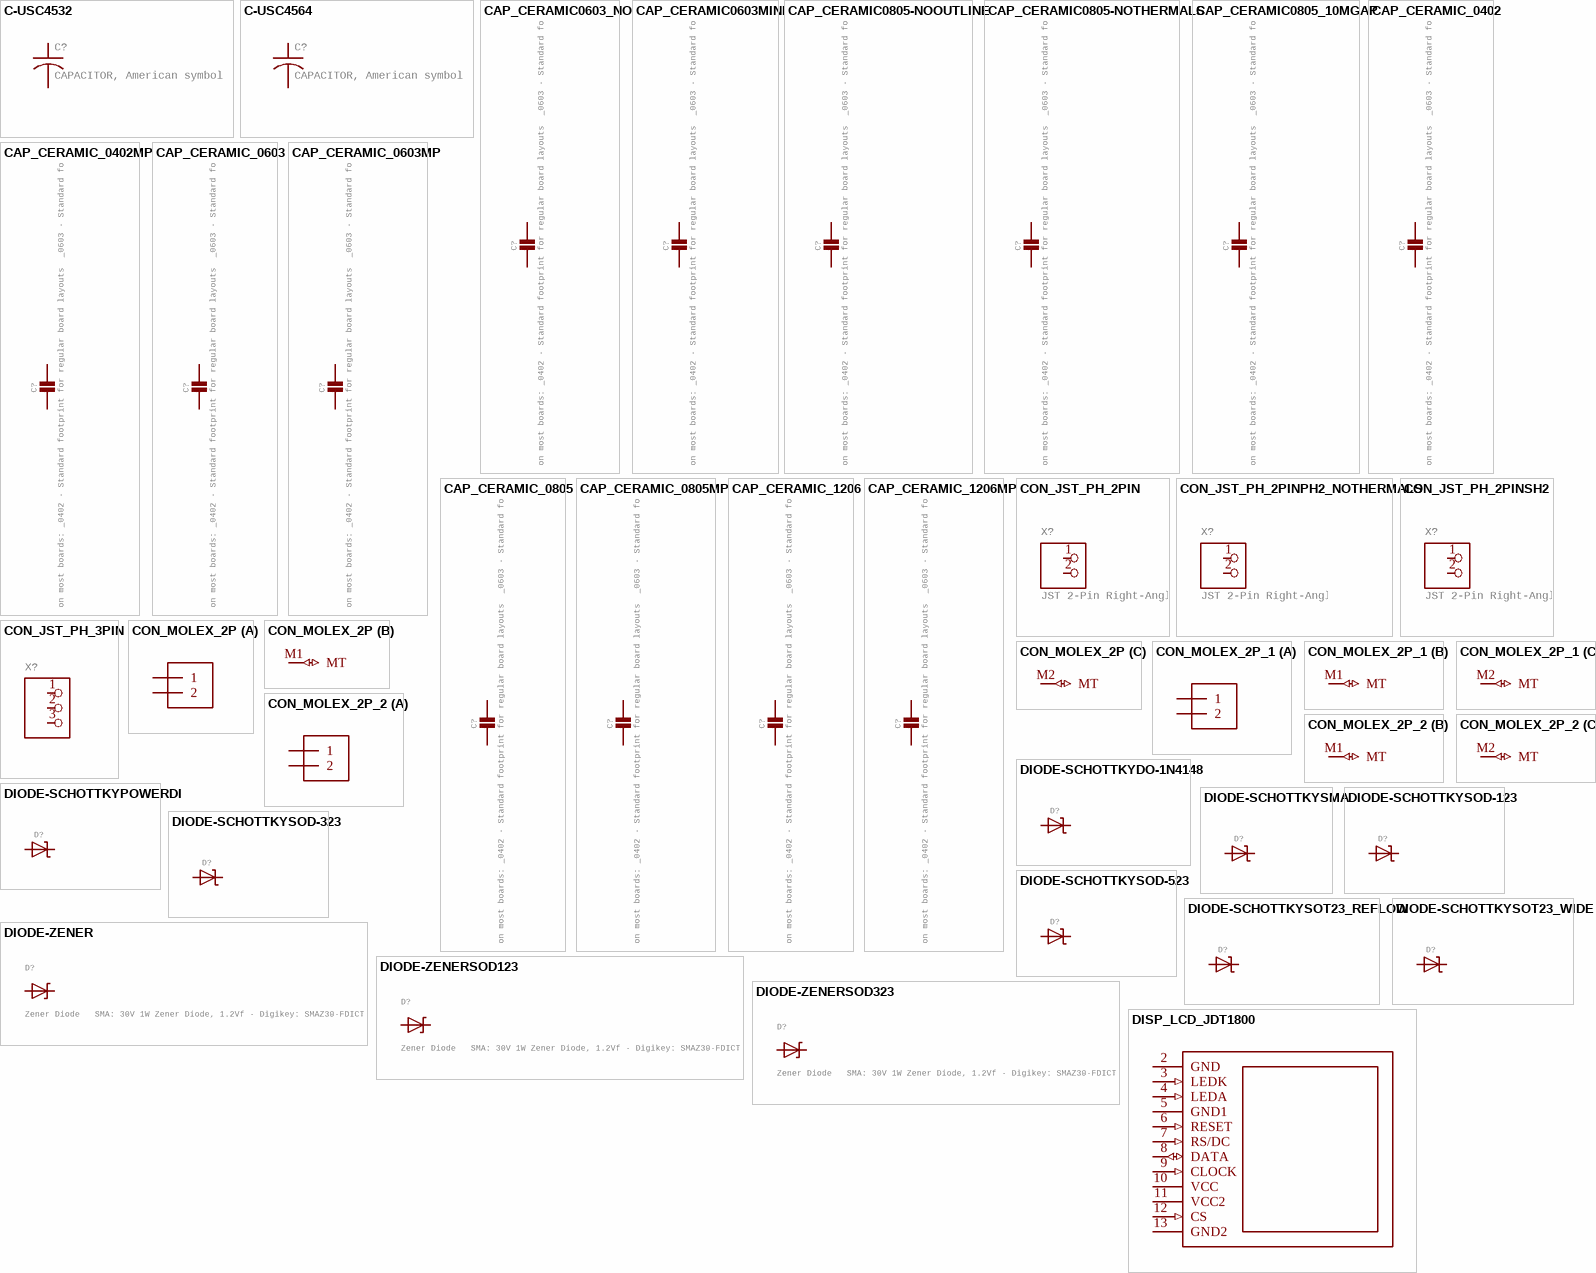
[diagram p3: symbols C-USC4532 to DISP_LCD_JDT1800]

## C-USC4532
designator C?, comment CAPACITOR, American symbol
GateName_1: G$1; SymbolName_1: C-US-1; DeviceName: C4532; DeviceSetName: C-US; LibraryName: Adafruit PyGamer; Package: C4532
footprint C4532
pins: 1, 2

## C-USC4564
designator C?, comment CAPACITOR, American symbol
GateName_1: G$1; SymbolName_1: C-US-1; DeviceName: C4564; DeviceSetName: C-US; LibraryName: Adafruit PyGamer; Package: C4564
footprint C4564
pins: 1, 2

## CAP_CERAMIC0603_NO
designator C?, comment Ceramic Capacitors   For new designs, use the packages preceded by an '_' character since they are more reliable:   The following footprints should be used on most boards: _0402 - Standard footprint for regular board layouts  _0603 - Standard footprint for regular board layouts  _0805 - Standard footprint for regular board layouts  _1206 - Standard footprint for regular board layouts       For extremely tight-pitch boards where space is at a premium, the following 'micro-pitch' footprints can be used (smaller pads, no silkscreen outline, etc.): _0402MP - Micro-pitch footprint for very dense/compact boards  _0603MP - Micro-pitch footprint for very dense/compact boards  _0805MP - Micro-pitch footprint for very dense/compact boards  _1206MP - Micro-pitch footprint for very dense/compact boards
GateName_1: G$1; DeviceName: 0603_NO; DeviceSetName: CAP_CERAMIC; SymbolName_1: CAPACITOR; LibraryName: Adafruit PyGamer; Package: 0603-NO
footprint 0603-NO
pins: 1, 2

## CAP_CERAMIC0603MINI
designator C?, comment Ceramic Capacitors   For new designs, use the packages preceded by an '_' character since they are more reliable:   The following footprints should be used on most boards: _0402 - Standard footprint for regular board layouts  _0603 - Standard footprint for regular board layouts  _0805 - Standard footprint for regular board layouts  _1206 - Standard footprint for regular board layouts       For extremely tight-pitch boards where space is at a premium, the following 'micro-pitch' footprints can be used (smaller pads, no silkscreen outline, etc.): _0402MP - Micro-pitch footprint for very dense/compact boards  _0603MP - Micro-pitch footprint for very dense/compact boards  _0805MP - Micro-pitch footprint for very dense/compact boards  _1206MP - Micro-pitch footprint for very dense/compact boards
GateName_1: G$1; DeviceName: 0603MINI; DeviceSetName: CAP_CERAMIC; SymbolName_1: CAPACITOR; LibraryName: Adafruit PyGamer; Package: 0603-MINI
footprint 0603-MINI
pins: 1, 2

## CAP_CERAMIC0805-NOOUTLINE
designator C?, comment Ceramic Capacitors   For new designs, use the packages preceded by an '_' character since they are more reliable:   The following footprints should be used on most boards: _0402 - Standard footprint for regular board layouts  _0603 - Standard footprint for regular board layouts  _0805 - Standard footprint for regular board layouts  _1206 - Standard footprint for regular board layouts       For extremely tight-pitch boards where space is at a premium, the following 'micro-pitch' footprints can be used (smaller pads, no silkscreen outline, etc.): _0402MP - Micro-pitch footprint for very dense/compact boards  _0603MP - Micro-pitch footprint for very dense/compact boards  _0805MP - Micro-pitch footprint for very dense/compact boards  _1206MP - Micro-pitch footprint for very dense/compact boards
GateName_1: G$1; DeviceName: 0805-NOOUTLINE; DeviceSetName: CAP_CERAMIC; SymbolName_1: CAPACITOR; LibraryName: Adafruit PyGamer; Package: 0805-NO
footprint 0805-NO
pins: 1, 2

## CAP_CERAMIC0805-NOTHERMALS
designator C?, comment Ceramic Capacitors   For new designs, use the packages preceded by an '_' character since they are more reliable:   The following footprints should be used on most boards: _0402 - Standard footprint for regular board layouts  _0603 - Standard footprint for regular board layouts  _0805 - Standard footprint for regular board layouts  _1206 - Standard footprint for regular board layouts       For extremely tight-pitch boards where space is at a premium, the following 'micro-pitch' footprints can be used (smaller pads, no silkscreen outline, etc.): _0402MP - Micro-pitch footprint for very dense/compact boards  _0603MP - Micro-pitch footprint for very dense/compact boards  _0805MP - Micro-pitch footprint for very dense/compact boards  _1206MP - Micro-pitch footprint for very dense/compact boards
GateName_1: G$1; DeviceName: 0805-NOTHERMALS; DeviceSetName: CAP_CERAMIC; SymbolName_1: CAPACITOR; LibraryName: Adafruit PyGamer; Package: 0805_NOTHERMALS
footprint 0805_NOTHERMALS
pins: 1, 2

## CAP_CERAMIC0805_10MGAP
designator C?, comment Ceramic Capacitors   For new designs, use the packages preceded by an '_' character since they are more reliable:   The following footprints should be used on most boards: _0402 - Standard footprint for regular board layouts  _0603 - Standard footprint for regular board layouts  _0805 - Standard footprint for regular board layouts  _1206 - Standard footprint for regular board layouts       For extremely tight-pitch boards where space is at a premium, the following 'micro-pitch' footprints can be used (smaller pads, no silkscreen outline, etc.): _0402MP - Micro-pitch footprint for very dense/compact boards  _0603MP - Micro-pitch footprint for very dense/compact boards  _0805MP - Micro-pitch footprint for very dense/compact boards  _1206MP - Micro-pitch footprint for very dense/compact boards
GateName_1: G$1; DeviceName: 0805_10MGAP; DeviceSetName: CAP_CERAMIC; SymbolName_1: CAPACITOR; LibraryName: Adafruit PyGamer; Package: 0805_10MGAP
footprint 0805_10MGAP
pins: 1, 2

## CAP_CERAMIC_0402
designator C?, comment Ceramic Capacitors   For new designs, use the packages preceded by an '_' character since they are more reliable:   The following footprints should be used on most boards: _0402 - Standard footprint for regular board layouts  _0603 - Standard footprint for regular board layouts  _0805 - Standard footprint for regular board layouts  _1206 - Standard footprint for regular board layouts       For extremely tight-pitch boards where space is at a premium, the following 'micro-pitch' footprints can be used (smaller pads, no silkscreen outline, etc.): _0402MP - Micro-pitch footprint for very dense/compact boards  _0603MP - Micro-pitch footprint for very dense/compact boards  _0805MP - Micro-pitch footprint for very dense/compact boards  _1206MP - Micro-pitch footprint for very dense/compact boards
GateName_1: G$1; DeviceSetName: CAP_CERAMIC; SymbolName_1: CAPACITOR; DeviceName: _0402; LibraryName: Adafruit PyGamer; Package: _0402
footprint _0402
pins: 1, 2

## CAP_CERAMIC_0402MP
designator C?, comment Ceramic Capacitors   For new designs, use the packages preceded by an '_' character since they are more reliable:   The following footprints should be used on most boards: _0402 - Standard footprint for regular board layouts  _0603 - Standard footprint for regular board layouts  _0805 - Standard footprint for regular board layouts  _1206 - Standard footprint for regular board layouts       For extremely tight-pitch boards where space is at a premium, the following 'micro-pitch' footprints can be used (smaller pads, no silkscreen outline, etc.): _0402MP - Micro-pitch footprint for very dense/compact boards  _0603MP - Micro-pitch footprint for very dense/compact boards  _0805MP - Micro-pitch footprint for very dense/compact boards  _1206MP - Micro-pitch footprint for very dense/compact boards
GateName_1: G$1; DeviceSetName: CAP_CERAMIC; SymbolName_1: CAPACITOR; DeviceName: _0402MP; LibraryName: Adafruit PyGamer; Package: _0402MP
footprint _0402MP
pins: 1, 2

## CAP_CERAMIC_0603
designator C?, comment Ceramic Capacitors   For new designs, use the packages preceded by an '_' character since they are more reliable:   The following footprints should be used on most boards: _0402 - Standard footprint for regular board layouts  _0603 - Standard footprint for regular board layouts  _0805 - Standard footprint for regular board layouts  _1206 - Standard footprint for regular board layouts       For extremely tight-pitch boards where space is at a premium, the following 'micro-pitch' footprints can be used (smaller pads, no silkscreen outline, etc.): _0402MP - Micro-pitch footprint for very dense/compact boards  _0603MP - Micro-pitch footprint for very dense/compact boards  _0805MP - Micro-pitch footprint for very dense/compact boards  _1206MP - Micro-pitch footprint for very dense/compact boards
GateName_1: G$1; DeviceSetName: CAP_CERAMIC; SymbolName_1: CAPACITOR; DeviceName: _0603; LibraryName: Adafruit PyGamer; Package: _0603
footprint _0603
pins: 1, 2

## CAP_CERAMIC_0603MP
designator C?, comment Ceramic Capacitors   For new designs, use the packages preceded by an '_' character since they are more reliable:   The following footprints should be used on most boards: _0402 - Standard footprint for regular board layouts  _0603 - Standard footprint for regular board layouts  _0805 - Standard footprint for regular board layouts  _1206 - Standard footprint for regular board layouts       For extremely tight-pitch boards where space is at a premium, the following 'micro-pitch' footprints can be used (smaller pads, no silkscreen outline, etc.): _0402MP - Micro-pitch footprint for very dense/compact boards  _0603MP - Micro-pitch footprint for very dense/compact boards  _0805MP - Micro-pitch footprint for very dense/compact boards  _1206MP - Micro-pitch footprint for very dense/compact boards
GateName_1: G$1; DeviceSetName: CAP_CERAMIC; SymbolName_1: CAPACITOR; DeviceName: _0603MP; LibraryName: Adafruit PyGamer; Package: _0603MP
footprint _0603MP
pins: 1, 2

## CAP_CERAMIC_0805
designator C?, comment Ceramic Capacitors   For new designs, use the packages preceded by an '_' character since they are more reliable:   The following footprints should be used on most boards: _0402 - Standard footprint for regular board layouts  _0603 - Standard footprint for regular board layouts  _0805 - Standard footprint for regular board layouts  _1206 - Standard footprint for regular board layouts       For extremely tight-pitch boards where space is at a premium, the following 'micro-pitch' footprints can be used (smaller pads, no silkscreen outline, etc.): _0402MP - Micro-pitch footprint for very dense/compact boards  _0603MP - Micro-pitch footprint for very dense/compact boards  _0805MP - Micro-pitch footprint for very dense/compact boards  _1206MP - Micro-pitch footprint for very dense/compact boards
GateName_1: G$1; DeviceSetName: CAP_CERAMIC; SymbolName_1: CAPACITOR; DeviceName: _0805; LibraryName: Adafruit PyGamer; Package: _0805
footprint _0805
pins: 1, 2

## CAP_CERAMIC_0805MP
designator C?, comment Ceramic Capacitors   For new designs, use the packages preceded by an '_' character since they are more reliable:   The following footprints should be used on most boards: _0402 - Standard footprint for regular board layouts  _0603 - Standard footprint for regular board layouts  _0805 - Standard footprint for regular board layouts  _1206 - Standard footprint for regular board layouts       For extremely tight-pitch boards where space is at a premium, the following 'micro-pitch' footprints can be used (smaller pads, no silkscreen outline, etc.): _0402MP - Micro-pitch footprint for very dense/compact boards  _0603MP - Micro-pitch footprint for very dense/compact boards  _0805MP - Micro-pitch footprint for very dense/compact boards  _1206MP - Micro-pitch footprint for very dense/compact boards
GateName_1: G$1; DeviceSetName: CAP_CERAMIC; SymbolName_1: CAPACITOR; DeviceName: _0805MP; LibraryName: Adafruit PyGamer; Package: _0805MP
footprint _0805MP
pins: 1, 2

## CAP_CERAMIC_1206
designator C?, comment Ceramic Capacitors   For new designs, use the packages preceded by an '_' character since they are more reliable:   The following footprints should be used on most boards: _0402 - Standard footprint for regular board layouts  _0603 - Standard footprint for regular board layouts  _0805 - Standard footprint for regular board layouts  _1206 - Standard footprint for regular board layouts       For extremely tight-pitch boards where space is at a premium, the following 'micro-pitch' footprints can be used (smaller pads, no silkscreen outline, etc.): _0402MP - Micro-pitch footprint for very dense/compact boards  _0603MP - Micro-pitch footprint for very dense/compact boards  _0805MP - Micro-pitch footprint for very dense/compact boards  _1206MP - Micro-pitch footprint for very dense/compact boards
GateName_1: G$1; DeviceSetName: CAP_CERAMIC; SymbolName_1: CAPACITOR; DeviceName: _1206; LibraryName: Adafruit PyGamer; Package: _1206
footprint _1206
pins: 1, 2

## CAP_CERAMIC_1206MP
designator C?, comment Ceramic Capacitors   For new designs, use the packages preceded by an '_' character since they are more reliable:   The following footprints should be used on most boards: _0402 - Standard footprint for regular board layouts  _0603 - Standard footprint for regular board layouts  _0805 - Standard footprint for regular board layouts  _1206 - Standard footprint for regular board layouts       For extremely tight-pitch boards where space is at a premium, the following 'micro-pitch' footprints can be used (smaller pads, no silkscreen outline, etc.): _0402MP - Micro-pitch footprint for very dense/compact boards  _0603MP - Micro-pitch footprint for very dense/compact boards  _0805MP - Micro-pitch footprint for very dense/compact boards  _1206MP - Micro-pitch footprint for very dense/compact boards
GateName_1: G$1; DeviceSetName: CAP_CERAMIC; SymbolName_1: CAPACITOR; DeviceName: _1206MP; LibraryName: Adafruit PyGamer; Package: _1206MP
footprint _1206MP
pins: 1, 2

## CON_JST_PH_2PIN
designator X?, comment JST 2-Pin Right-Angle Connector  PH-Series - 4UConnector: 17311  SH-Series - 4UConnector: 07278
GateName_1: G$1; SymbolName_1: PINHD2; DeviceSetName: CON_JST_PH_2PIN; LibraryName: Adafruit PyGamer; Package: JSTPH2
footprint JSTPH2
pins: 1, 2

## CON_JST_PH_2PINPH2_NOTHERMALS
designator X?, comment JST 2-Pin Right-Angle Connector  PH-Series - 4UConnector: 17311  SH-Series - 4UConnector: 07278
GateName_1: G$1; SymbolName_1: PINHD2; DeviceName: PH2_NOTHERMALS; DeviceSetName: CON_JST_PH_2PIN; LibraryName: Adafruit PyGamer; Package: JSTPH2_NOTHERMALS
footprint JSTPH2_NOTHERMALS
pins: 1, 2

## CON_JST_PH_2PINSH2
designator X?, comment JST 2-Pin Right-Angle Connector  PH-Series - 4UConnector: 17311  SH-Series - 4UConnector: 07278
GateName_1: G$1; SymbolName_1: PINHD2; DeviceName: SH2; DeviceSetName: CON_JST_PH_2PIN; LibraryName: Adafruit PyGamer; Package: JSTSH2
footprint JSTSH2
pins: 1, 2

## CON_JST_PH_3PIN
designator X?
GateName_1: G$1; SymbolName_1: PINHD3; DeviceSetName: CON_JST_PH_3PIN; LibraryName: Adafruit PyGamer; Package: JSTPH3
footprint JSTPH3
pins: 1, 2, 3

## CON_MOLEX_2P
designator ?
GateName_1: G$1; SymbolName_1: 1X2; GateName_2: G$2; SymbolName_2: MOUNTING; GateName_3: G$3; DeviceSetName: CON_MOLEX_2P; SymbolName_3: MOUNTING; LibraryName: Adafruit PyGamer; Package: 53398-0271
footprint 53398-0271
part A pins: 1, 2
part B pins: M1 MT (io)
part C pins: M2 MT (io)

## CON_MOLEX_2P_1
designator ?
GateName_1: G$1; SymbolName_1: 1X2; GateName_2: G$2; SymbolName_2: MOUNTING; GateName_3: G$3; DeviceSetName: CON_MOLEX_2P; SymbolName_3: MOUNTING; LibraryName: Adafruit PyGamer; Package: 53398-0271
footprint 53398-0271
part A pins: 1, 2
part B pins: M1 MT (io)
part C pins: M2 MT (io)

## CON_MOLEX_2P_2
designator ?
GateName_1: G$1; SymbolName_1: 1X2; GateName_2: G$2; SymbolName_2: MOUNTING; GateName_3: G$3; DeviceSetName: CON_MOLEX_2P; SymbolName_3: MOUNTING; LibraryName: Adafruit PyGamer; Package: 53398-0271
footprint 53398-0271
part A pins: 1, 2
part B pins: M1 MT (io)
part C pins: M2 MT (io)

## DIODE-SCHOTTKYDO-1N4148
designator D?
GateName_1: G$1; SymbolName_1: DIODE-SCHOTTKY; DeviceName: DO-1N4148; LibraryName: Adafruit PyGamer; DeviceSetName: DIODE-SCHOTTKY; Package: DO-1N4148
footprint DO-1N4148
pins: A, C

## DIODE-SCHOTTKYPOWERDI
designator D?
GateName_1: G$1; SymbolName_1: DIODE-SCHOTTKY; DeviceName: POWERDI; LibraryName: Adafruit PyGamer; DeviceSetName: DIODE-SCHOTTKY; Package: POWERDI-5
footprint POWERDI-5
pins: A1,2 A, C

## DIODE-SCHOTTKYSMA
designator D?
GateName_1: G$1; SymbolName_1: DIODE-SCHOTTKY; DeviceName: SMA; LibraryName: Adafruit PyGamer; DeviceSetName: DIODE-SCHOTTKY; Package: SMADIODE
footprint SMADIODE
pins: A, C

## DIODE-SCHOTTKYSOD-123
designator D?
GateName_1: G$1; SymbolName_1: DIODE-SCHOTTKY; DeviceName: SOD-123; LibraryName: Adafruit PyGamer; DeviceSetName: DIODE-SCHOTTKY; Package: SOD-123
footprint SOD-123
pins: A, C

## DIODE-SCHOTTKYSOD-323
designator D?
GateName_1: G$1; SymbolName_1: DIODE-SCHOTTKY; DeviceName: SOD-323; LibraryName: Adafruit PyGamer; DeviceSetName: DIODE-SCHOTTKY; Package: SOD-323
footprint SOD-323
pins: A, C

## DIODE-SCHOTTKYSOD-523
designator D?
GateName_1: G$1; SymbolName_1: DIODE-SCHOTTKY; DeviceName: SOD-523; LibraryName: Adafruit PyGamer; DeviceSetName: DIODE-SCHOTTKY; Package: SOD-523
footprint SOD-523
pins: A, K C

## DIODE-SCHOTTKYSOT23_REFLOW
designator D?
GateName_1: G$1; SymbolName_1: DIODE-SCHOTTKY; DeviceName: SOT23_REFLOW; LibraryName: Adafruit PyGamer; DeviceSetName: DIODE-SCHOTTKY; Package: SOT23-R
footprint SOT23-R
pins: 1 A, 3 C

## DIODE-SCHOTTKYSOT23_WIDE
designator D?
GateName_1: G$1; SymbolName_1: DIODE-SCHOTTKY; DeviceName: SOT23_WIDE; LibraryName: Adafruit PyGamer; DeviceSetName: DIODE-SCHOTTKY; Package: SOT23-WIDE
footprint SOT23-WIDE
pins: 1 A, 3 C

## DIODE-ZENER
designator D?, comment Zener Diode   SMA: 30V 1W Zener Diode, 1.2Vf - Digikey: SMAZ30-FDICT-ND
GateName_1: G$1; SymbolName_1: DIODE-ZENER; LibraryName: Adafruit PyGamer; DeviceSetName: DIODE-ZENER; Package: SMADIODE
footprint SMADIODE
pins: A, C

## DIODE-ZENERSOD123
designator D?, comment Zener Diode   SMA: 30V 1W Zener Diode, 1.2Vf - Digikey: SMAZ30-FDICT-ND
GateName_1: G$1; SymbolName_1: DIODE-ZENER; DeviceName: SOD123; LibraryName: Adafruit PyGamer; DeviceSetName: DIODE-ZENER; Package: SOD-123
footprint SOD-123
pins: A, C

## DIODE-ZENERSOD323
designator D?, comment Zener Diode   SMA: 30V 1W Zener Diode, 1.2Vf - Digikey: SMAZ30-FDICT-ND
GateName_1: G$1; SymbolName_1: DIODE-ZENER; DeviceName: SOD323; LibraryName: Adafruit PyGamer; DeviceSetName: DIODE-ZENER; Package: SOD-323
footprint SOD-323
pins: A, C

## DISP_LCD_JDT1800
designator LCD?
GateName_1: G$1; SymbolName_1: JD-T1800; DeviceSetName: DISP_LCD_JDT1800; LibraryName: Adafruit PyGamer; Package: JD-T1800
footprint JD-T1800
pins: 2 GND (power), 3 LEDK (in), 4 LEDA (in), 5 GND1 (power), 6 RESET (in), 7 RS/DC (in), 8 DATA (io), 9 CLOCK (in), 10 VCC (power), 11 VCC2 (power), 12 CS (in), 13 GND2 (power)

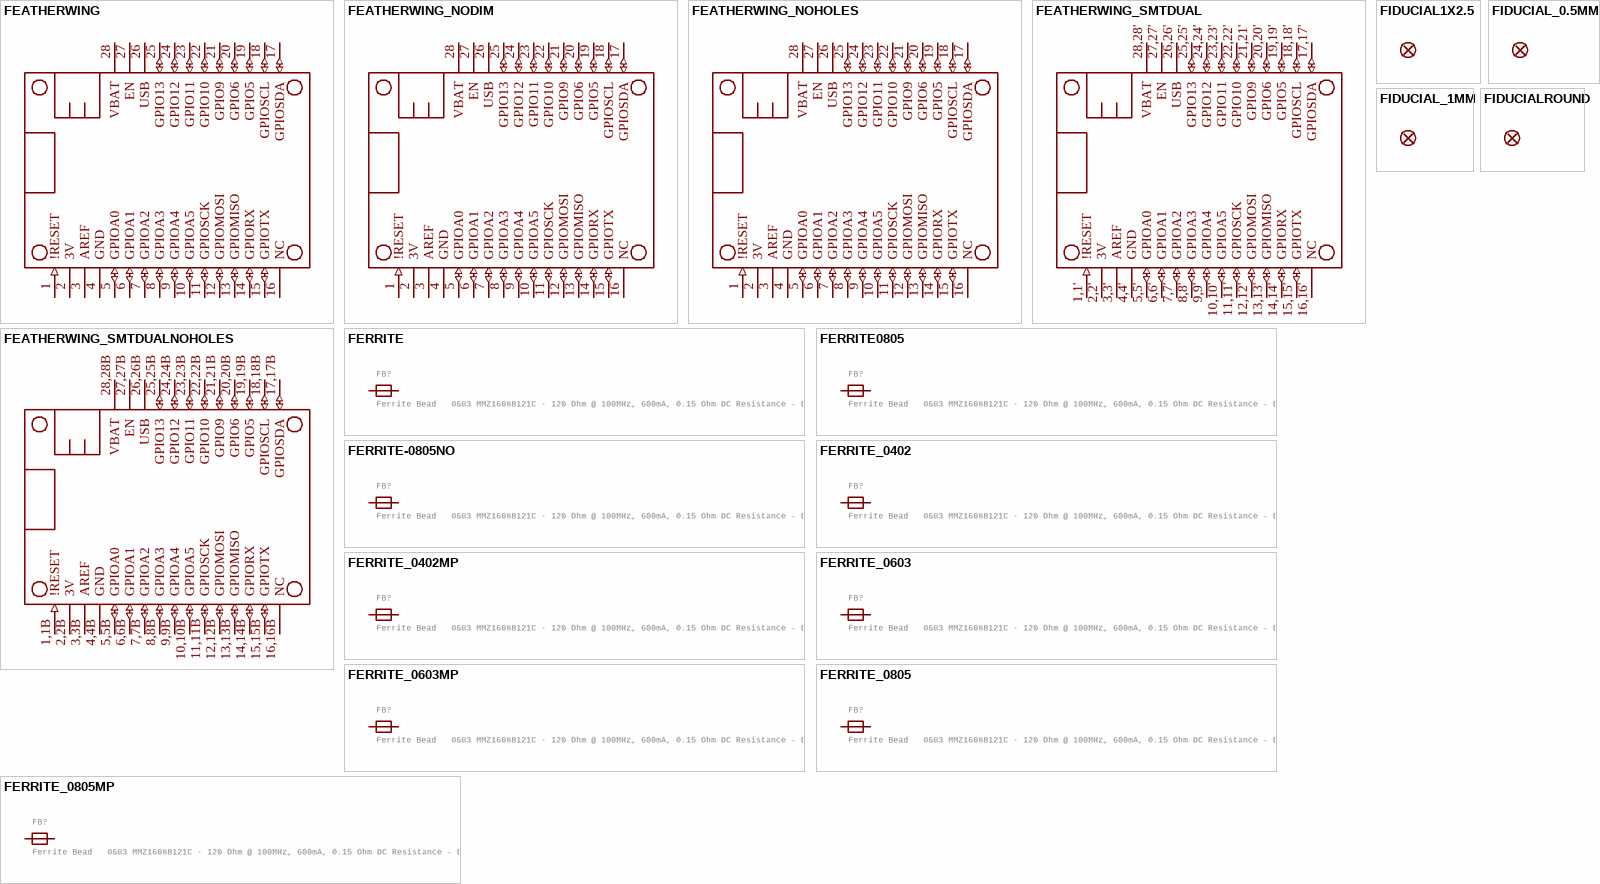
[diagram p4: symbols FEATHERWING to FIDUCIALROUND]